# EAGLE library part ADXL345 (library stan)
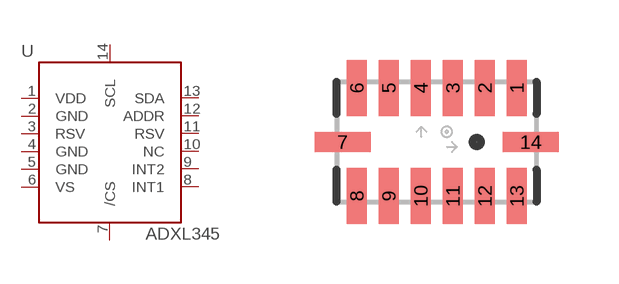
[diagram p11: symbol with the pads of LGA14; footprint LGA14]

Designator prefix -

## ADXL345  [LGA14]
1  VDD
2  GND
3  RSV
4  GND
5  GND
6  VS
7  /CS
8  INT1
9  INT2
10  NC
11  RSV
12  ADDR
13  SDA
14  SCL

## Footprint LGA14 (pad centres in mm)
smd 0.5 x 1.4: 1 2,1.354; 2 1.2,1.354; 3 0.4,1.354; 4 -0.4,1.354; 5 -1.2,1.354; 6 -2,1.354; 8 -2,-1.354; 9 -1.2,-1.354; 10 -0.4,-1.354; 11 0.4,-1.354; 12 1.2,-1.354; 13 2,-1.354
smd 1.4 x 0.5: 7 -2.354,0; 14 2.354,0